# Altium footprint library SnapEDApcb.PcbLib: 1 footprints
Each footprint in its own frame and in the unit in brackets; x right, y up, seen from the top. Pads: shape width x height; smd on the part's side, far side on the other; paste and mask are expansions set on the pad; w line width, h text height; cw(c..) or ccw(c..) is an arc to the next point about the centre after c.
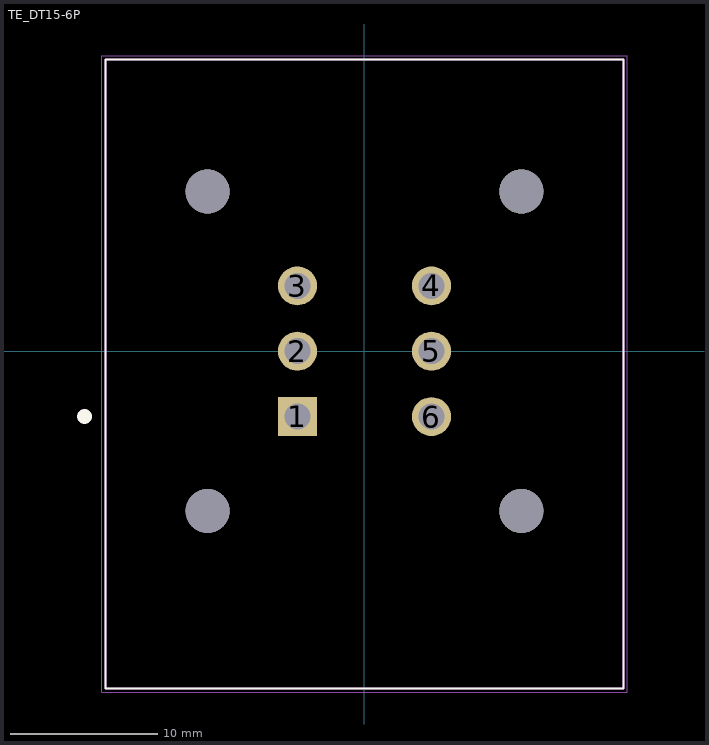
[diagram p0: the footprint, top view; thin cyan lines are the x and y axes]

## TE_DT15-6P [mm]
pads (10):
  rect 2.655x2.655 hole 1.77: 1(-4.56,-4.45)
  round 2.655 hole 1.77: 2(-4.56,0) 3(-4.56,4.45) 4(4.56,4.45) 5(4.56,0) 6(4.56,-4.45)
  round 2.99 hole 2.99 unplated: ""(-10.67,-10.87) ""(-10.67,10.87) ""(10.67,-10.87) ""(10.67,10.87)
Top Overlay:
  circle w0.5: c-19.05,-4.44 r0.25
  lines w0.127: -17.625,-22.95 -17.625,19.85 17.625,19.85 17.625,-22.95 -17.625,-22.95
Mechanical 13:
  circle w0.5: c-19.05,-4.44 r0.25
  lines w0.127: -17.625,-22.95 -17.625,19.85 17.625,19.85 17.625,-22.95 -17.625,-22.95
Mechanical 15:
  lines w0.05: -17.875,-23.2 17.875,-23.2 17.875,20.1 -17.875,20.1 -17.875,-23.2